# EAGLE library part OMAT_IC_2_MCP1501/SN (library cpu)
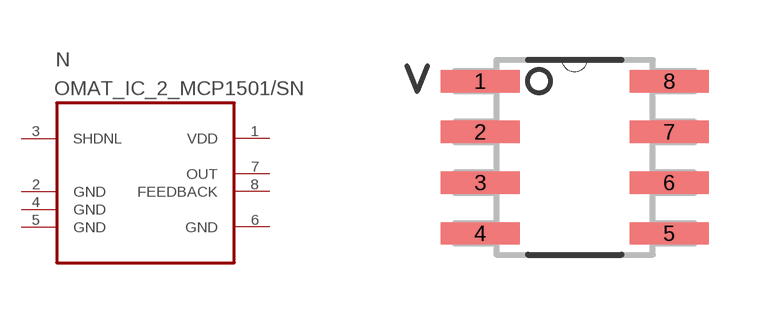
[diagram p5: symbol with the pads of OMAT_IC_2_SOIC8-N_MC; footprint OMAT_IC_2_SOIC8-N_MC]

Designator prefix N

## OMAT_IC_2_MCP1501/SN  [OMAT_IC_2_SOIC8-N_MC]
1  VDD
2  GND
3  SHDNL  pwr
4  GND
5  GND
6  GND  in
7  OUT
8  FEEDBACK  in

## Footprint OMAT_IC_2_SOIC8-N_MC (pad centres in mm)
smd 1.981 x 0.559: 1 -2.362,1.905; 2 -2.362,0.635; 3 -2.362,-0.635; 4 -2.362,-1.905; 5 2.362,-1.905; 6 2.362,-0.635; 7 2.362,0.635; 8 2.362,1.905